# Altium footprint library DIP880W50P254L2000H510Q16.PcbLib: 1 footprints
Each footprint in its own frame and in the unit in brackets; x right, y up, seen from the top. Pads: shape width x height; smd on the part's side, far side on the other; paste and mask are expansions set on the pad; w line width, h text height; cw(c..) or ccw(c..) is an arc to the next point about the centre after c.
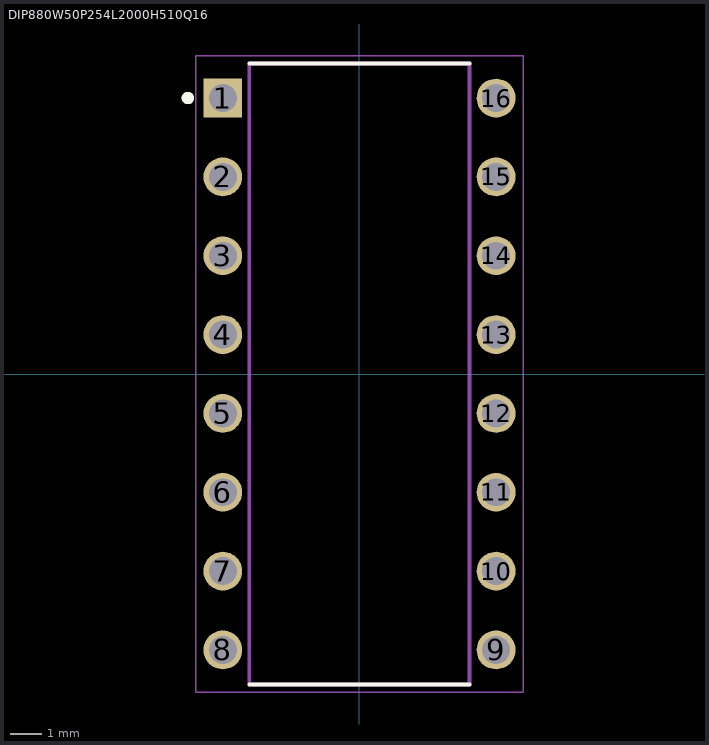
[diagram p0: the footprint, top view; thin cyan lines are the x and y axes]

## DIP880W50P254L2000H510Q16 [mm]
height 5.1
pads (16):
  rect 1.25x1.25 / inner round 1.25 / far side rect 1.25x1.25 hole 0.9: 1(-4.4,8.89)
  round 1.25 hole 0.9: 2(-4.4,6.35) 3(-4.4,3.81) 4(-4.4,1.27) 5(-4.4,-1.27) 6(-4.4,-3.81) 7(-4.4,-6.35) 8(-4.4,-8.89) 9(4.4,-8.89) 10(4.4,-6.35) 11(4.4,-3.81) 12(4.4,-1.27) 13(4.4,1.27) 14(4.4,3.81) 15(4.4,6.35) 16(4.4,8.89)
Top Overlay:
  circle w0.2: c-5.525,8.89 r0.1
  lines w0.127: -3.55,-10 3.55,-10 ; -3.55,10 3.55,10
Mechanical 13:
  circle w0.2: c-5.525,8.89 r0.1
  lines w0.127: -3.55,-10 3.55,-10 3.55,10 -3.55,10 -3.55,-10
Mechanical 15:
  lines w0.05: -5.275,-10.25 5.275,-10.25 5.275,10.25 -5.275,10.25 -5.275,-10.25
3D body "step_temp.STEP": height 5.1, standoff -3.3, extent -4.747,-10.16 4.493,9.84